# Altium integrated library Buttons.IntLib: 9 symbols
Pins are listed as number, name and electrical type; pins without a type are passive.

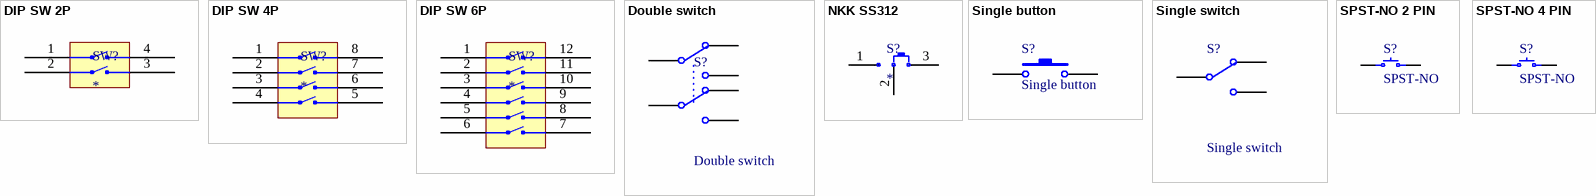
[diagram p0: symbols DIP SW 2P to SPST-NO 4 PIN]

## DIP SW 2P
designator SW?
footprint CTS 218-2LPJ (DIP, 2 POS, Body 3.71x6.05mm, Pitch 1.27mm, IPC Medium Density)
pins: 1 GND, 2 GND, 3 GND, 4 GND

## DIP SW 4P
designator SW?
footprint CTS 218-4LPJ (DIP, 6 POS, Body 8.79x6.05mm, Pitch 1.27mm, IPC Medium Density)
pins: 1 GND, 2 GND, 3 GND, 4 GND, 5, 6, 7, 8

## DIP SW 6P
designator SW?
footprint CTS 218-6LPJ (DIP, 4 POS, Body 6.25x6.05mm, Pitch 1.27mm, IPC Medium Density)
pins: 1 GND, 2 GND, 3 GND, 4 GND, 5, 6, 7, 8, 9, 10, 11, 12

## Double switch
designator S?
Different footprints; Published: 24-Mar-1999; LatestRevisionDate: 17-Jul-2002; LatestRevisionNote: Re-released for DXP Platform.; PackageReference: DPDT-6; Publisher: Altium Limited; PackageDescription: Switch; 6 Leads
footprint double switch 8.5mm (Switch; 6 Leads)
pins: 1, 2, 3, 3, 4, 6

## NKK SS312
designator S?
footprint NKK SS312SAH4
pins: 1, 2 COM, 3

## Single button
designator S?
Different footprints; Published: 24-Mar-1999; LatestRevisionDate: 17-Jul-2002; LatestRevisionNote: Re-released for DXP Platform.; PackageReference: SPST-2; Publisher: Altium Limited; PackageDescription: Switch; 2 Leads
footprint SWT 12x12mm (Big button)
footprint SWT-39 smd button (TM1103R25B)
footprint SWT-6 R DIP single button (Button, 2 Leads)
pins: 1, 2

## Single switch
designator S?
Different footprints; Published: 24-Mar-1999; LatestRevisionDate: 17-Jul-2002; LatestRevisionNote: Re-released for DXP Platform.; PackageReference: DPDT-6; Publisher: Altium Limited; PackageDescription: Switch; 6 Leads
footprint double switch 8.5mm side (Switch; 3 Leads)
pins: 1, 2, 3

## SPST-NO 2 PIN
designator S?, comment SPST-NO
footprint TE FSMSMTR
pins: 1, 2

## SPST-NO 4 PIN
designator S?, comment SPST-NO
footprint NKK AB11AH-HA
footprint NKK AB11AH-HC
footprint TE FSM4JSMA
footprint TE FSM6JSMA
pins: 1, 2, 3, 4